# EAGLE library part IC-74H595-SOP-16 (library - Jins eagle lbr)
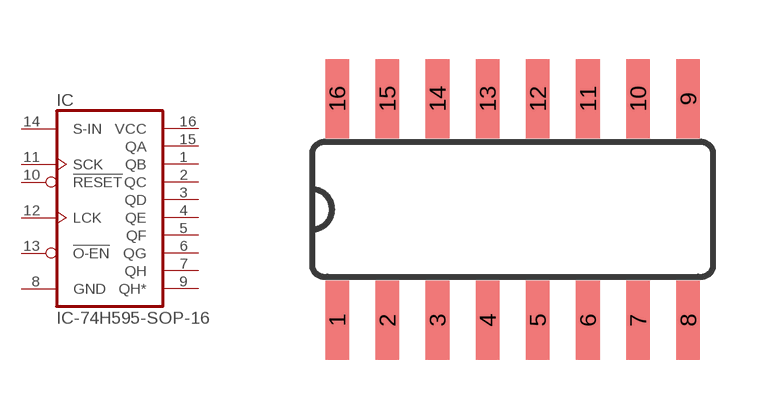
[diagram p2: symbol with the pads of SOP-16; footprint SOP-16]

Designator prefix IC

## IC-74H595-SOP-16  [SOP-16]
1  QB  hiz
2  QC  hiz
3  QD  hiz
4  QE  hiz
5  QF  hiz
6  QG  hiz
7  QH  hiz
8  GND  pwr
9  QH*  hiz
10  !RESET  in
11  SCK  in
12  LCK  in
13  !O-EN  in
14  S-IN  in
15  QA  hiz
16  VCC  pwr

## Footprint SOP-16 (pad centres in mm)
smd 0.6 x 2: 1 -3.945,-2.76; 2 -2.675,-2.76; 3 -1.405,-2.76; 4 -0.135,-2.76; 5 1.135,-2.76; 6 2.405,-2.76; 7 3.675,-2.76; 8 4.945,-2.76; 9 4.945,2.84; 10 3.675,2.84; 11 2.405,2.84; 12 1.135,2.84; 13 -0.135,2.84; 14 -1.405,2.84; 15 -2.675,2.84; 16 -3.945,2.84